# Altium footprint library capacitorsSMD.PcbLib: 5 footprints
Each footprint in its own frame and in the unit in brackets; x right, y up, seen from the top. Pads: shape width x height; smd on the part's side, far side on the other; paste and mask are expansions set on the pad; w line width, h text height; cw(c..) or ccw(c..) is an arc to the next point about the centre after c.
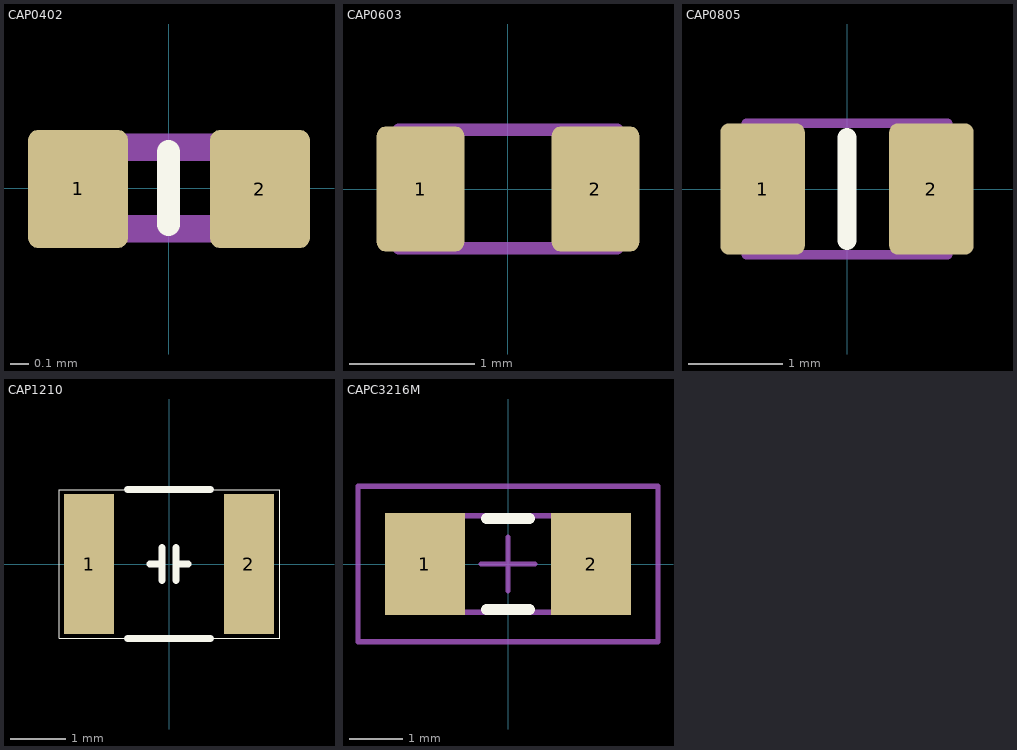
[diagram p0: the footprints below, top view; thin cyan lines are the x and y axes]

## CAP0402 [mm]
pads (2):
  rrect20% 0.55x0.65 smd: 1(-0.498,-0.005) 2(0.503,-0.005)
Top Overlay:
  lines w0.127: 0,-0.2 0,0.2
Mechanical 13:
  region: -0.254,-0.305 -0.555,-0.305 -0.555,0.295 -0.254,0.295
  region: 0.559,-0.305 0.259,-0.305 0.259,0.295 0.559,0.295
  lines w0.152: -0.245,-0.224 0.245,-0.224 ; -0.245,0.224 0.245,0.224
3D body "C0402C104K8RAC.STEP": height 0.5, standoff 0, extent -0.492,-0.269 0.508,0.281

## CAP0603 [mm]
pads (2):
  rrect20% 0.7x1 smd: 1(-0.7,0) 2(0.7,0)
Mechanical 13:
  lines w0.1: -0.875,-0.475 0.875,-0.475 0.875,0.475 -0.875,0.475 -0.875,-0.475
3D body "C0603C104K8RACTU.STEP": height 0.95, standoff 0, extent -0.8,-0.4 0.8,0.4

## CAP0805 [mm]
pads (2):
  rrect20% 0.9x1.4 smd: 1(-0.9,0) 2(0.9,0)
Top Overlay:
  lines w0.2: 0,-0.55 0,0.55
Mechanical 13:
  lines w0.1: -1.075,-0.7 1.075,-0.7 1.075,0.7 -1.075,0.7 -1.075,-0.7
3D body "C0805C104K8RACTU.STEP": height 0.88, standoff 0, extent -1,-0.625 1,0.625

## CAP1210 [mm]
pads (2):
  rect 0.9x2.54 smd: 1(-1.45,0) 2(1.45,0)
Top Overlay:
  lines w0.02: -1.99,-1.35 2.01,-1.35 2.01,1.35 -1.99,1.35 -1.99,-1.35
  lines w0.125: -0.75,-1.35 0.75,-1.35 ; -0.75,1.35 0.75,1.35 ; -0.35,0 -0.125,0 ; -0.125,-0.3 -0.125,0.3 ; 0.125,-0.3 0.125,0.3 ; 0.125,0 0.35,0
3D body "1210 SMD Capacitor (no mark).stp": height 2.45, standoff -0.05, extent -1.65,-1.25 1.55,1.25

## CAPC3216M [mm]
pads (2):
  rect 1.5x1.9 smd: 1(-1.55,0) 2(1.55,0)
Top Overlay:
  lines w0.2: -0.4,-0.85 0.4,-0.85 ; -0.4,0.85 0.4,0.85
Mechanical 13:
  lines w0.1: -1.7,-0.9 -1.7,0.9 1.7,0.9 1.7,-0.9 -1.7,-0.9
Mechanical 15:
  lines w0.1: -0.5,0 0.5,0 ; 0,-0.5 0,0.5 ; -2.8,-1.45 -2.8,1.45 2.8,1.45 2.8,-1.45 -2.8,-1.45
3D body: height 1.35, standoff 0, extent -1.7,-0.9 1.7,0.9